# EAGLE library part 418121270812 (library Wurth_Elektronik_Electromechanic_Switch_rev15d)
WS-IC-2.54 mm small compact SMD Dip Switch with raised actuator,24 pins,12 poles
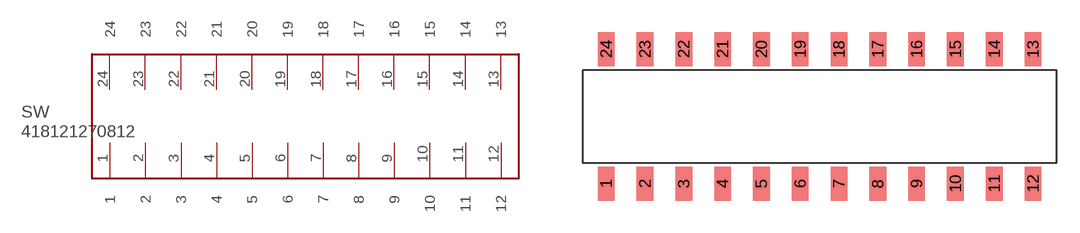
[diagram p48: symbol with the pads of 418121270812; footprint 418121270812]

Designator prefix SW

## 418121270812  [418121270812]
1  1
2  2
3  3
4  4
5  5
6  6
7  7
8  8
9  9
10  10
11  11
12  12
13  13
14  14
15  15
16  16
17  17
18  18
19  19
20  20
21  21
22  22
23  23
24  24

## Footprint 418121270812 (pad centres in mm)
WS-IC-2.54 mm small compact SMD Dip Switch with raised actuator,24 pins,12 poles
smd 1.1 x 2.2: 1 -13.97,-4.4; 2 -11.43,-4.4; 3 -8.89,-4.4; 4 -6.35,-4.4; 5 -3.81,-4.4; 6 -1.27,-4.4; 7 1.27,-4.4; 8 3.81,-4.4; 9 6.35,-4.4; 10 8.89,-4.4; 11 11.43,-4.4; 12 13.97,-4.4; 13 13.97,4.4; 14 11.43,4.4; 15 8.89,4.4; 16 6.35,4.4; 17 3.81,4.4; 18 1.27,4.4; 19 -1.27,4.4; 20 -3.81,4.4; 21 -6.35,4.4; 22 -8.89,4.4; 23 -11.43,4.4; 24 -13.97,4.4